# Altium footprint library Terminal.PcbLib: 6 footprints
Each footprint in its own frame and in the unit in brackets; x right, y up, seen from the top. Pads: shape width x height; smd on the part's side, far side on the other; paste and mask are expansions set on the pad; w line width, h text height; cw(c..) or ccw(c..) is an arc to the next point about the centre after c.
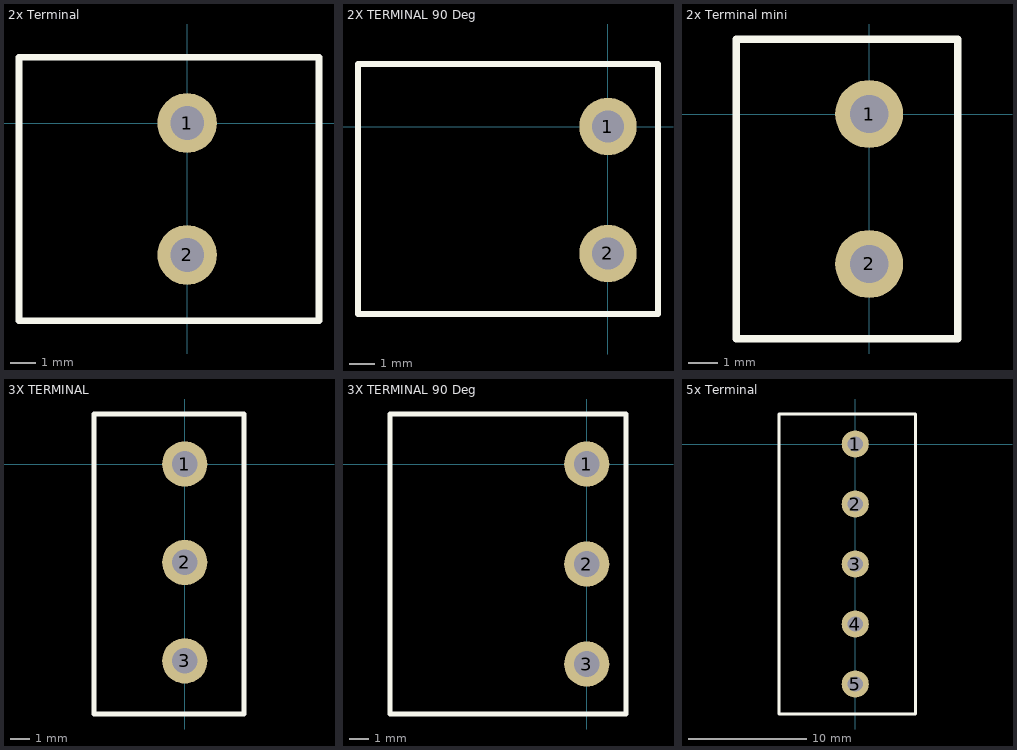
[diagram p0: the footprints below, top view; thin cyan lines are the x and y axes]

## 2x Terminal [mil]
height 393.7
pads (2):
  round 90.53 / inner round 60 / far side round 90.53 hole 51.17: 1(0,0) 2(0,-200)
Top Overlay:
  lines w10: -255,-300 -255,100 200,100 200,-300 -255,-300
3D body: height 533.57, standoff -159.35, extent -177.16,-299.22 177.17,94.49

## 2X TERMINAL 90 Deg [mil]
pads (2):
  round 90.53 / inner round 60 / far side round 90.53 hole 51.17: 1(0,0) 2(0,-200)
Top Overlay:
  lines w10: -393.7,-295.28 -393.7,98.43 78.74,98.43 78.74,-295.28 -393.7,-295.28

## 2x Terminal mini [mil]
height 393.7
pads (2):
  round 90.53 / inner round 60 / far side round 90.53 hole 51.17: 1(0,0) 2(0,-200)
Top Overlay:
  lines w10: -177.17,-300 -177.17,100 118.11,100 118.11,-300 -177.17,-300
3D body: height 393.7, standoff -118.11, extent -180.12,-319.88 119.1,97.45

## 3X TERMINAL [mm]
pads (3):
  round 2.3 / inner round 1.524 / far side round 2.3 hole 1.3: 1(0,0) 2(0,-5) 3(0,-10)
Top Overlay:
  lines w0.254: -4.6,-12.7 -4.6,2.54 3,2.54 3,-12.7 -4.6,-12.7
3D body: height 10, standoff -3, extent -4.6,-13.1 3,2.5

## 3X TERMINAL 90 Deg [mil]
pads (3):
  round 90.53 / inner round 60 / far side round 90.53 hole 51.17: 1(0,0) 2(0,-200) 3(0,-400)
Top Overlay:
  lines w10: -393.7,-500 78.74,-500 78.74,100 -393.7,100 -393.7,-500

## 5x Terminal [mil]
height 314.96
pads (5):
  round 90.53 / inner round 60 / far side round 90.53 hole 51.17: 1(0,0) 2(0,-200) 3(0,-400) 4(0,-600) 5(0,-800)
Top Overlay:
  lines w10: -255,-900 -255,-700 -255,-300 -255,100 200,100 200,-300 200,-700 200,-900 -255,-900
3D body: height 393.7, standoff 0, extent -255,-900 200,100